# Altium footprint library ECE453_S24.PcbLib: 16 footprints
Each footprint in its own frame and in the unit in brackets; x right, y up, seen from the top. Pads: shape width x height; smd on the part's side, far side on the other; paste and mask are expansions set on the pad; w line width, h text height; cw(c..) or ccw(c..) is an arc to the next point about the centre after c.
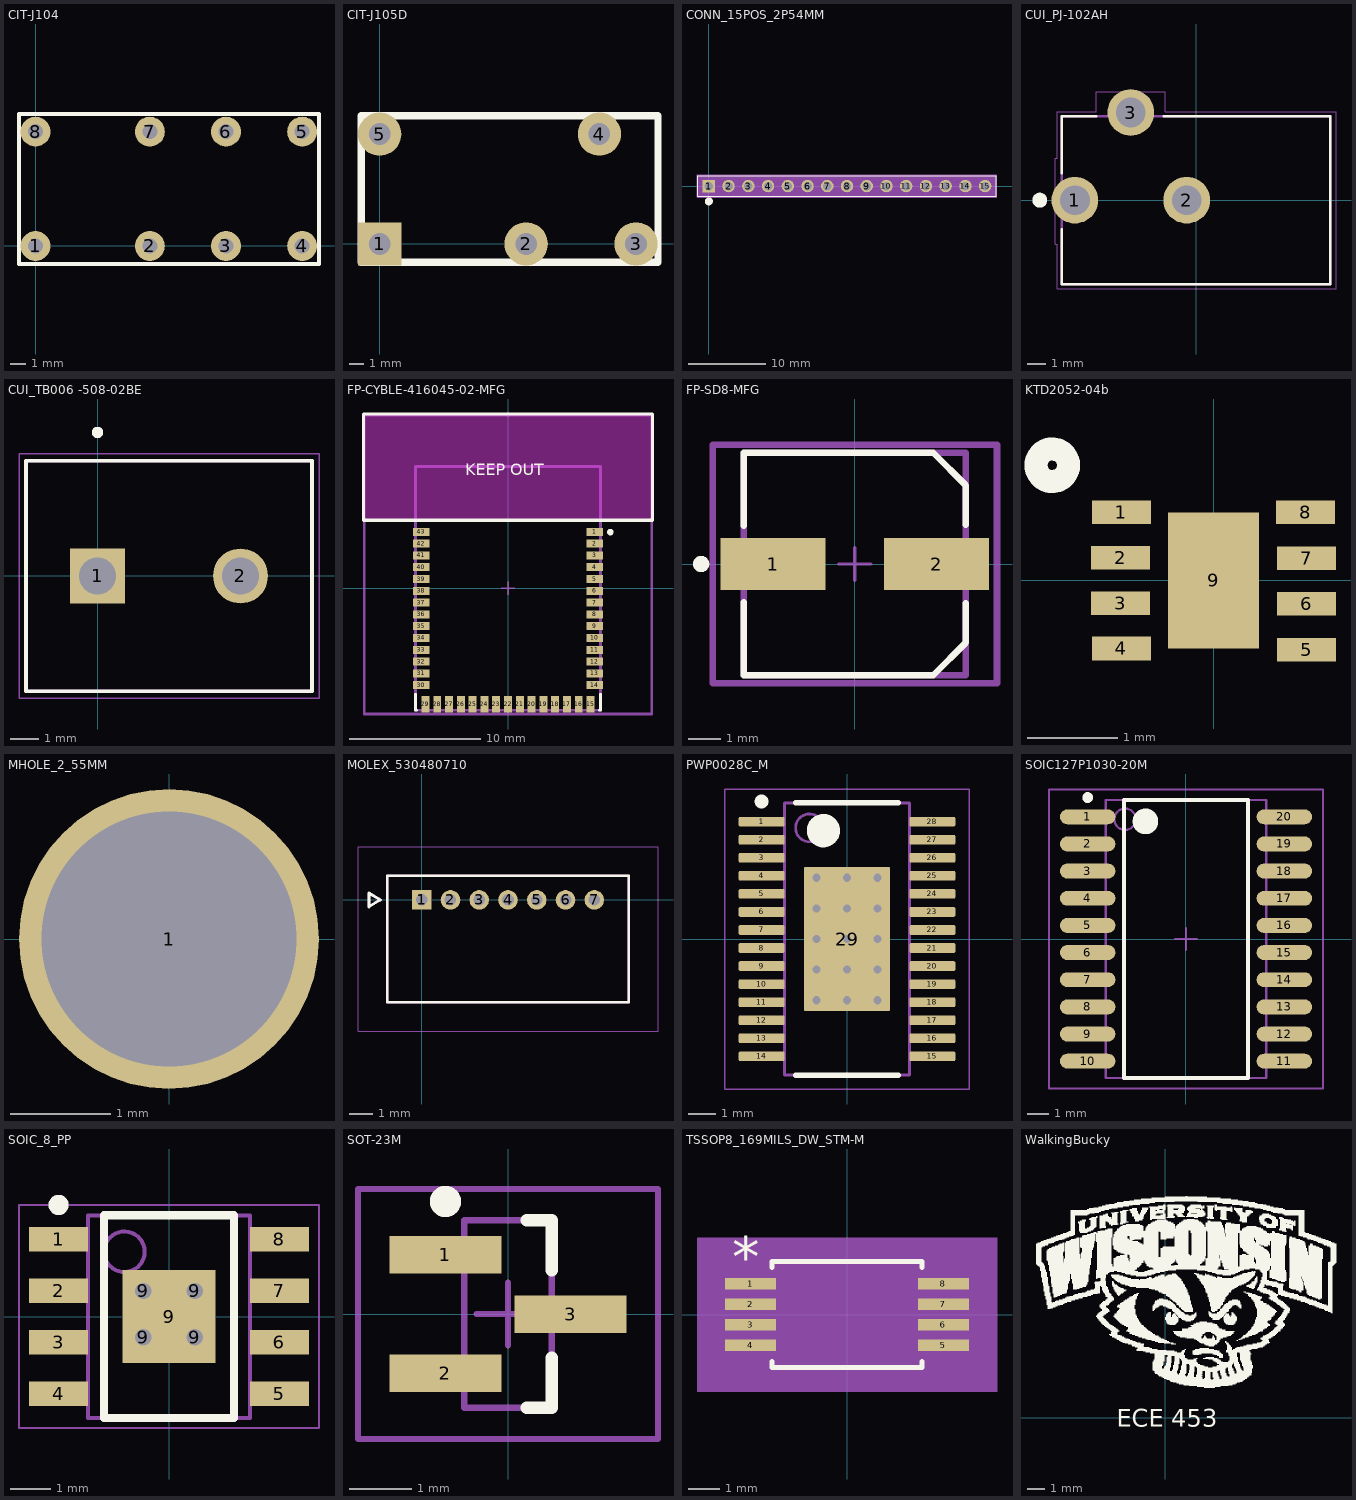
[diagram p0: the footprints below, top view; thin cyan lines are the x and y axes]

## CIT-J104 [mm]
pads (8):
  round 2 hole 1: 1(0,0) 2(7.62,0) 3(12.7,0) 4(17.78,0) 5(17.78,7.62) 6(12.7,7.62) 7(7.62,7.62) 8(0,7.62)
Top Overlay:
  lines w0.25: -1.1,-1.2 18.9,-1.2 18.9,8.8 -1.1,8.8 -1.1,-1.2

## CIT-J105D [mm]
pads (5):
  rect 3x3 hole 1.5: 1(0,0)
  round 3 hole 1.5: 2(10.16,0) 3(17.78,0) 4(15.24,7.62) 5(0,7.62)
Top Overlay:
  lines w0.5: -1.27,-1.27 -1.27,8.89
  lines w0.508: -1.27,-1.27 19.304,-1.27 19.304,8.89 -1.27,8.89

## CONN_15POS_2P54MM [mil]
pads (15):
  rect 63x63 / inner round 60 / far side rect 63x63 hole 43 paste-99999 mask+0: 1(0,0)
  round 63 / inner round 60 / far side round 63 hole 43 paste-99999 mask+0: 2(100,0) 3(200,0) 4(300,0) 5(400,0) 6(500,0) 7(600,0) 8(700,0) 9(800,0) 10(900,0) 11(1000,0) 12(1100,0) 13(1200,0) 14(1300,0) 15(1400,0)
Top Overlay:
  circle w20: c0,-77.5 r10
  lines w6: -55,-52.5 1455,-52.5 1455,52.5 -55,52.5 -55,-52.5
Mechanical 13:
  circle w0: c0,-32.5 r10
  lines w1: -50,-47.5 1450,-47.5 1450,47.5 -50,47.5 -50,-47.5
Mechanical 15:
  region: 1460,57.5 -60,57.5 -60,-57.5 1460,-57.5
  lines w6: -60,-57.5 -60,57.5 1460,57.5 1460,-57.5 -60,-57.5
3D body "CONN_68000-115HLF_AMP.step": height 330, standoff -200, extent -50,-47.48 1450,47.48

## CUI_PJ-102AH [mm]
pads (3):
  round 2.5 hole 1.6: 1(-6.5,0) 2(-0.5,0) 3(-3.5,4.7)
Top Overlay:
  circle w0.4: c-8.382,0 r0.2
  lines w0.127: -7.2,-1.55 -7.2,-4.5 7.2,-4.5 7.2,4.5 -1.75,4.5 ; -7.2,1.45 -7.2,4.5 -5.35,4.5
Mechanical 13:
  lines w0.127: -7.2,-4.5 -7.2,4.5 7.2,4.5 7.2,-4.5 -7.2,-4.5
Mechanical 15:
  lines w0.05: -7.55,-2.35 -7.45,-2.35 -7.45,-4.75 7.5,-4.75 7.5,4.75 -1.65,4.75 -1.65,5.8 -5.35,5.8 -5.35,4.75 -7.45,4.75 -7.45,2.25 -7.55,2.25 -7.55,-2.35

## CUI_TB006 -508-02BE [mm]
pads (2):
  rect 1.95x1.95 / inner round 1.95 / far side rect 1.95x1.95 hole 1.3: 1(0,0)
  round 1.95 hole 1.3: 2(5.08,0)
Top Overlay:
  circle w0.2: c0,5.1 r0.1
  lines w0.127: -2.54,-4.1 -2.54,4.1 7.62,4.1 7.62,-4.1 -2.54,-4.1
Mechanical 13:
  circle w0.2: c0,5.1 r0.1
  lines w0.127: -2.54,-4.1 -2.54,4.1 7.62,4.1 7.62,-4.1 -2.54,-4.1
Mechanical 15:
  lines w0.05: -2.79,-4.35 7.87,-4.35 7.87,4.35 -2.79,4.35 -2.79,-4.35

## FP-CYBLE-416045-02-MFG [mm]
pads (43):
  rect 1.27x0.61 smd paste+0 mask+0: 1(6.619,4.32) 2(6.619,3.42) 3(6.619,2.52) 4(6.619,1.62) 5(6.619,0.71) 6(6.619,-0.19) 7(6.619,-1.09) 8(6.619,-1.99) 9(6.619,-2.89) 10(6.619,-3.79) 11(6.619,-4.7) 12(6.619,-5.6) 13(6.619,-6.5) 14(6.619,-7.4) 30(-6.619,-7.4) 31(-6.619,-6.5) 32(-6.619,-5.6) 33(-6.619,-4.7) 34(-6.619,-3.79) 35(-6.619,-2.89) 36(-6.619,-1.99) 37(-6.619,-1.09) 38(-6.619,-0.19) 39(-6.619,0.71) 40(-6.619,1.62) 41(-6.619,2.52) 42(-6.619,3.42) 43(-6.619,4.32)
  rect 0.61x1.27 smd paste+0 mask+0: 15(6.31,-8.869) 16(5.41,-8.869) 17(4.51,-8.869) 18(3.61,-8.869) 19(2.71,-8.869) 20(1.8,-8.869) 21(0.9,-8.869) 22(0,-8.869) 23(-0.9,-8.869) 24(-1.8,-8.869) 25(-2.7,-8.869) 26(-3.61,-8.869) 27(-4.51,-8.869) 28(-5.41,-8.869) 29(-6.31,-8.869)
Top Overlay:
  circle w0.25: c7.825,4.305 r0.125
  lines w0.2: -7.075,-8.08 -7.075,-9.325 -6.99,-9.325 ; 6.99,-9.325 7.075,-9.325 7.075,-8.08
  lines w0.254: -11.049,5.207 -11.049,13.335 11.049,13.335 11.049,5.207 -11.049,5.207
  text "KEEP OUT" at -3.277,8.661 h0.89
Keep-Out Layer:
  rectangle: -11,5.207 11,13.25
  rectangle: -11,5.207 11,13.25
Board:
  lines w0.2: -7.075,-9.325 7.075,-9.325 7.075,9.325 -7.075,9.325 -7.075,-9.325
Top Courtyard:
  lines w0.2: -11,-9.604 11,-9.604 11,13.25 -11,13.25 -11,-9.604
Top Assembly:
  lines w0.2: -11,-9.604 11,-9.604 11,13.25 -11,13.25 -11,-9.604
  text ".Designator" at 0,2.01 h1
Top Component Center:
  lines w0.1: -0.5,0 0.5,0 ; 0,-0.5 0,0.5
3D body "UNK_Cypress_Semiconductor_CYBLE-416045-02_eec.STEP": height 0.25, standoff 0, extent -11,-9.604 11,13.25

## FP-SD8-MFG [mm]
pads (2):
  rect 3.2x1.6 smd paste+0 mask+0: 1(-2.5,0) 2(2.5,0)
Top Overlay:
  circle w0.25: c-4.7,0 r0.125
  lines w0.2: -3.4,-1.175 -3.4,-3.4 2.4,-3.4 3.4,-2.4 3.4,-1.2 ; -3.4,1.175 -3.4,3.4 2.4,3.4 3.4,2.4 3.4,1.2
Top 3D Body:
  lines w0.2: -3.4,-3.4 -3.4,3.4 3.4,3.4 3.4,-3.4 -3.4,-3.4
Top Courtyard:
  lines w0.2: -4.35,-3.65 -4.35,3.65 4.35,3.65 4.35,-3.65 -4.35,-3.65
Top Assembly:
  lines w0.2: -4.35,-3.65 -4.35,3.65 4.35,3.65 4.35,-3.65 -4.35,-3.65
  text ".Designator" at 0,0.187 h1
Top Component Center:
  lines w0.1: -0.5,0 0.5,0 ; 0,-0.5 0,0.5
3D body "Cap_Panasonic_Electronic_Components_EEE-1HA470XP_eec.STEP": height 0.25, standoff 0, extent -4.35,-3.65 4.35,3.65

## KTD2052-04b [mm]
pads (9):
  rect 0.65x0.26 smd mask+0.09: 1(-1.016,0.75) 2(-1.025,0.25) 3(-1.025,-0.25) 4(-1.016,-0.75) 5(1.025,-0.762) 6(1.025,-0.258) 7(1.025,0.246) 8(1.016,0.75)
  rect 1x1.5 smd mask+0.09: 9(0,0)
Top Overlay:
  circle w0.254: c-1.778,1.27 r0.18

## MHOLE_2_55MM [mm]
pads (1):
  round 3 / inner round 4.572 / far side round 4.318 hole 2.55: 1(0,0)

## MOLEX_530480710 [mm]
height 3.5
pads (7):
  rect 0.85x0.85 / inner round 0.85 / far side rect 0.85x0.85 hole 0.5 mask+0.076: 1(0,0)
  round 0.85 hole 0.5 mask+0.076: 2(1.25,0) 3(2.5,0) 4(3.75,0) 5(5,0) 6(6.25,0) 7(7.5,0)
Top Overlay:
  lines w0.127: -2.3,-0.3 -1.8,0 -2.3,0.3 -2.3,-0.3 ; -1.5,-4.45 -1.5,1.05 9,1.05 9,-4.45 -1.5,-4.45
Mechanical 13:
  lines w0.127: -2.3,-0.3 -1.8,0 -2.3,0.3 -2.3,-0.3 ; -1.5,-4.45 -1.5,1.05 9,1.05 9,-4.45 -1.5,-4.45
  text "PTH D0.5 +/- 0.05" at -2.5,-9.5 h0.5
Mechanical 15:
  lines w0.05: -2.77,-5.72 -2.77,2.32 10.27,2.32 10.27,-5.72 -2.77,-5.72
3D body "530480710--3DModel-STEP-231308.STEP": height 3.5, standoff -2.3, extent -1.483,-4.445 9.017,1.055

## PWP0028C_M [mm]
pads (29):
  rrect29% 1.65x0.35 smd: 1(-3.075,4.225) 2(-3.075,3.575) 3(-3.075,2.925) 4(-3.075,2.275) 5(-3.075,1.625) 6(-3.075,0.975) 7(-3.075,0.325) 8(-3.075,-0.325) 9(-3.075,-0.975) 10(-3.075,-1.625) 11(-3.075,-2.275) 12(-3.075,-2.925) 13(-3.075,-3.575) 14(-3.075,-4.225) 15(3.075,-4.225) 16(3.075,-3.575) 17(3.075,-2.925) 18(3.075,-2.275) 19(3.075,-1.625) 20(3.075,-0.975) 21(3.075,-0.325) 22(3.075,0.325) 23(3.075,0.975) 24(3.075,1.625) 25(3.075,2.275) 26(3.075,2.925) 27(3.075,3.575) 28(3.075,4.225)
  rrect3% 3.1x5.18 smd: 29(0,0)
via 1.1,-2.2 diameter 0.6 hole 0.3
via 0,-2.2 diameter 0.6 hole 0.3
via -1.1,-2.2 diameter 0.6 hole 0.3
via 1.1,-1.1 diameter 0.6 hole 0.3
via 0,-1.1 diameter 0.6 hole 0.3
via -1.1,-1.1 diameter 0.6 hole 0.3
via 1.1,0 diameter 0.6 hole 0.3
via 0,0 diameter 0.6 hole 0.3
via -1.1,0 diameter 0.6 hole 0.3
via 1.1,1.1 diameter 0.6 hole 0.3
via 0,1.1 diameter 0.6 hole 0.3
via -1.1,1.1 diameter 0.6 hole 0.3
via 1.1,2.2 diameter 0.6 hole 0.3
via 0,2.2 diameter 0.6 hole 0.3
via -1.1,2.2 diameter 0.6 hole 0.3
Top Overlay:
  circle w0.6: c-0.85,3.9 r0.3
  circle w0.25: c-3.075,4.95 r0.125
  lines w0.2: -1.85,-4.9 1.85,-4.9 ; -1.85,4.9 1.85,4.9
Mechanical 1:
  text ".Designator" at -1.524,-0.508 h1.02
Mechanical 13:
  circle w0.1: c-1.35,4 r0.5
  lines w0.1: -2.25,-4.9 2.25,-4.9 2.25,4.9 -2.25,4.9 -2.25,-4.9
Mechanical 15:
  lines w0.05: -4.4,-5.4 4.4,-5.4 4.4,5.4 -4.4,5.4 -4.4,-5.4
  lines w0.1: -0.5,0 0.5,0 ; 0,-0.5 0,0.5
3D body: height 1.2, standoff 0.05, extent -2.25,-4.9 2.25,4.9

## SOIC127P1030-20M [mm] "SOIC, 20-Leads, Body 12.8x7.5mm, Pitch 1.27mm, IPC Low Density"
height 2.65
pads (20):
  oval 2.6x0.7 smd: 1(-4.6,5.715) 2(-4.6,4.445) 3(-4.6,3.175) 4(-4.6,1.905) 5(-4.6,0.635) 6(-4.6,-0.635) 7(-4.6,-1.905) 8(-4.6,-3.175) 9(-4.6,-4.445) 10(-4.6,-5.715) 11(4.6,-5.715) 12(4.6,-4.445) 13(4.6,-3.175) 14(4.6,-1.905) 15(4.6,-0.635) 16(4.6,0.635) 17(4.6,1.905) 18(4.6,3.175) 19(4.6,4.445) 20(4.6,5.715)
Top Overlay:
  circle w0.25: c-4.6,6.615 r0.125
  circle w0.6: c-1.9,5.5 r0.3
  lines w0.2: -2.9,-6.5 -2.9,6.5 2.9,6.5 2.9,-6.5 -2.9,-6.5
Mechanical 13:
  circle w0.1: c-2.85,5.6 r0.5
  lines w0.1: -3.75,-6.5 -3.75,6.5 3.75,6.5 3.75,-6.5 -3.75,-6.5
Mechanical 15:
  lines w0.1: -0.5,0 0.5,0 ; 0,-0.5 0,0.5 ; -6.4,-7 -6.4,7 6.4,7 6.4,-7 -6.4,-7
3D body: height 2.65, standoff 0, extent -3.75,-6.5 3.75,6.5

## SOIC_8_PP [mm] "SOIC, 8-Leads, Body 4.90x3.90mm, Pitch 1.27mm, Thermal Pad 2.29x2.29mm, IPC Medium Density"
height 1.7
pads (13):
  rect 1.45x0.6 smd: 1(-2.725,1.905) 2(-2.725,0.635) 3(-2.725,-0.635) 4(-2.725,-1.905) 5(2.725,-1.905) 6(2.725,-0.635) 7(2.725,0.635) 8(2.725,1.905)
  round 0.8 hole 0.4: 9(-0.635,-0.508) 9(-0.635,0.635) 9(0.635,-0.508) 9(0.635,0.635)
  rect 2.29x2.29 smd: 9(0,0)
Top Overlay:
  circle w0.25: c-2.725,2.755 r0.125
  lines w0.2: -1.6,-2.5 1.6,-2.5 1.6,2.5 -1.6,2.5 -1.6,-2.5
Top Courtyard:
  lines w0.05: -3.7,-2.75 3.7,-2.75 3.7,2.75 -3.7,2.75 -3.7,-2.75
  lines w0.1: -0.5,0 0.5,0 ; 0,-0.5 0,0.5
Top Assembly:
  circle w0.1: c-1.1,1.6 r0.5
  lines w0.1: -2,-2.5 2,-2.5 2,2.5 -2,2.5 -2,-2.5
3D body "SOIC127P600X170_HS-9N.step": height 1.7, standoff 0, extent -3,-2.5 3,2.5

## SOT-23M [mm]
pads (3):
  rect 1.8x0.6 smd: 1(-1,0.95) 2(-1,-0.95) 3(1,0)
Top Overlay:
  circle w0.25: c-1,1.8 r0.125
  lines w0.2: 0.3,-1.5 0.7,-1.5 0.7,-0.7 ; 0.3,1.5 0.7,1.5 0.7,0.7
Mechanical 13:
  lines w0.1: -0.7,-1.5 -0.7,1.5 0.7,1.5 0.7,-1.5 -0.7,-1.5
Mechanical 15:
  lines w0.1: -0.5,0 0.5,0 ; 0,-0.5 0,0.5 ; -2.4,-2 -2.4,2 2.4,2 2.4,-2 -2.4,-2
3D body: height 1.1, standoff 0, extent -0.7,-1.5 0.7,1.5

## TSSOP8_169MILS_DW_STM-M [mil]
pads (8):
  rect 63.5x14 smd paste+0 mask+0: 1(-120.25,38.39) 2(-120.25,12.8) 3(-120.25,-12.8) 4(-120.25,-38.39) 5(120.25,-38.39) 6(120.25,-12.8) 7(120.25,12.8) 8(120.25,38.39)
Top Overlay:
  lines w6: -93.5,-58.49 -93.5,-66 93.5,-66 93.5,-58.49 ; -93.5,58.49 -93.5,66 93.5,66 93.5,58.49
  text "*" at -142.75,47.39 h50
Mechanical 5:
  region: 187,-96 -187,-96 -187,96 187,96
Mechanical 13:
  lines w0: -12,61 ccw(c0,61) 12,61
  lines w1: -130,-44.39 -130,-32.39 -88.5,-32.39 -88.5,-44.39 -130,-44.39 ; -130,-18.8 -130,-6.8 -88.5,-6.8 -88.5,-18.8 -130,-18.8 ; -130,6.8 -130,18.8 -88.5,18.8 -88.5,6.8 -130,6.8 ; -130,32.39 -130,44.39 -88.5,44.39 -88.5,32.39 -130,32.39 ; -88.5,-61 88.5,-61 88.5,61 -88.5,61 -88.5,-61 ; 88.5,-44.39 88.5,-32.39 130,-32.39 130,-44.39 88.5,-44.39 ; 88.5,-18.8 88.5,-6.8 130,-6.8 130,-18.8 88.5,-18.8 ; 88.5,6.8 88.5,18.8 130,18.8 130,6.8 88.5,6.8 ; 88.5,32.39 88.5,44.39 130,44.39 130,32.39 88.5,32.39
  text "*" at -86,8 h50
Mechanical 15:
  region: -108.5,-65.39 -172,-65.39 -172,65.39 -108.5,65.39 -108.5,81 108.5,81 108.5,65.39 172,65.39 172,-65.39 108.5,-65.39 108.5,-81 -108.5,-81
  lines w6: -172,-65.39 -172,65.39 -108.5,65.39 -108.5,81 108.5,81 108.5,65.39 172,65.39 172,-65.39 108.5,-65.39 108.5,-81 -108.5,-81 -108.5,-65.39 -172,-65.39
3D body "TSSOP8_169MILS_DW_STM.step": height 47.09, standoff 0, extent -130,-60.98 130,60.98

## WalkingBucky [mm]
Top Overlay:
  drawing of 2083 lines, arcs and shapes, not listed
  text "ECE 453" at -2.794,-0.508 h1.02